# Altium footprint library passiveComps.PcbLib: 19 footprints (part 2 of 2)
Each footprint in its own frame and in the unit in brackets; x right, y up, seen from the top. Pads: shape width x height; smd on the part's side, far side on the other; paste and mask are expansions set on the pad; w line width, h text height; cw(c..) or ccw(c..) is an arc to the next point about the centre after c.
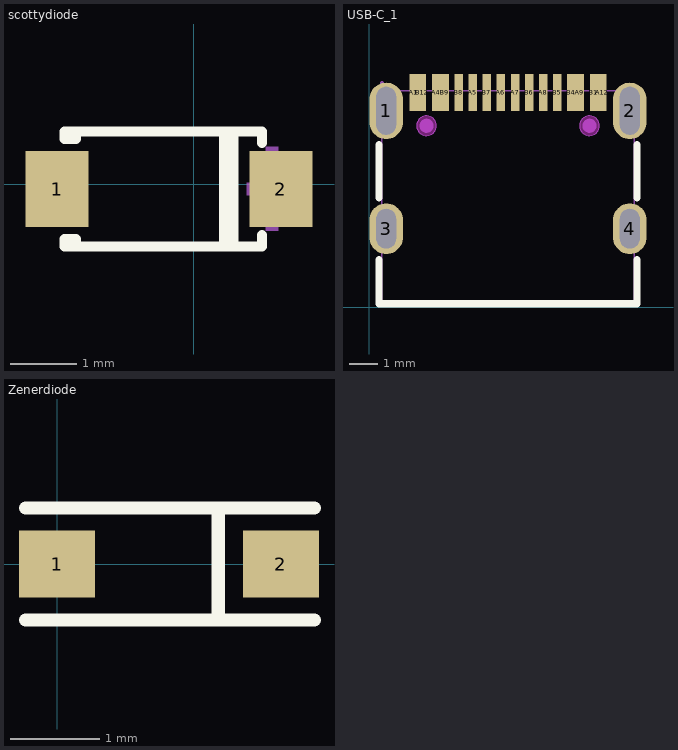
[diagram p1: the footprints below, top view; thin cyan lines are the x and y axes]

## scottydiode [mm]
pads (2):
  rect 0.95x1.15 smd paste+0 mask+0.051: 1(-2.065,-0.074) 2(1.32,-0.074)
Top Overlay:
  lines w0.152: 0.458,-0.94 0.458,0.793 ; 0.6,-0.94 0.6,0.793 ; 1.034,-0.772 1.034,-0.94 -1.779,-0.94 ; 1.034,0.625 1.034,0.793 -1.779,0.793 ; -1.779,-0.94 -1.952,-0.94 -1.952,-0.829 -1.779,-0.829 -1.779,-0.94 ; -1.779,0.793 -1.952,0.793 -1.952,0.682 -1.779,0.682 -1.779,0.793
Mechanical 15:
  region: -2.403,0.021 -2.403,-0.168 -1.644,-0.168 -1.644,0.021
  region: 1.563,0.024 1.563,-0.165 0.804,-0.165 0.804,0.024
  region: 1.279,0.561 1.279,-0.703 1.089,-0.703 1.089,0.561
3D body "sod123 v4.step": height 1.2, standoff 0, extent -2.254,-0.931 1.496,0.769

## USB-C_1 [mm]
pads (20):
  oval 1.2x2 hole 0.7 slot 1.7 at 90 deg paste+0 mask+0.051: 1(0.596,6.972) 2(9.236,6.972)
  oval 1.2x1.8 hole 0.7 slot 1.4 at 90 deg paste+0 mask+0.051: 3(0.596,2.792) 4(9.236,2.792)
  rect 0.3x1.3 smd paste-100 mask+0.05: A1(1.566,7.622) A4(2.366,7.622) A5(3.666,7.622) A6(4.666,7.622) A7(5.166,7.622) A8(6.166,7.622) A9(7.466,7.622) A12(8.266,7.622) B1(7.966,7.622) B4(7.166,7.622) B5(6.666,7.622) B6(5.666,7.622) B7(4.166,7.622) B8(3.166,7.622) B9(2.666,7.622) B12(1.866,7.622)
Top Overlay:
  lines w0.254: 0.344,1.7 0.344,0.127 9.488,0.127 9.488,1.7 ; 0.344,3.884 0.344,5.78 ; 9.488,3.884 9.488,5.78
Top Paste:
  drawing of 16 lines, arcs and shapes, not listed
Keep-Out Layer:
  board cut-out: 8.156,6.442 8.156,6.512 8.103,6.64 8.004,6.739 7.876,6.792 7.736,6.792 7.608,6.739 7.509,6.64 7.456,6.512 7.456,6.442 7.456,6.372 7.509,6.244 7.608,6.145 7.736,6.092 7.876,6.092 8.004,6.145 8.103,6.244 8.156,6.372
  board cut-out: 2.376,6.442 2.376,6.512 2.323,6.64 2.224,6.739 2.096,6.792 1.956,6.792 1.828,6.739 1.729,6.64 1.676,6.512 1.676,6.442 1.676,6.372 1.729,6.244 1.828,6.145 1.956,6.092 2.096,6.092 2.224,6.145 2.323,6.244 2.376,6.372
Mechanical 1:
  circle w0.005: c7.806,6.442 r0.35
  circle w0.005: c2.026,6.442 r0.35
Mechanical 6:
  circle w0.25: c7.806,6.442 r0.125
  circle w0.25: c2.026,6.442 r0.125
Mechanical 15:
  region: 1.716,7.967 1.916,7.967 1.916,6.967 1.716,6.967
  region: 1.516,7.967 1.716,7.967 1.716,6.967 1.516,6.967
  region: 2.516,7.967 2.716,7.967 2.716,6.967 2.516,6.967
  region: 2.316,7.967 2.516,7.967 2.516,6.967 2.316,6.967
  region: 7.316,7.967 7.516,7.967 7.516,6.967 7.316,6.967
  region: 7.116,7.967 7.316,7.967 7.316,6.967 7.116,6.967
  region: 8.116,7.967 8.316,7.967 8.316,6.967 8.116,6.967
  region: 7.916,7.967 8.116,7.967 8.116,6.967 7.916,6.967
  region: 3.066,7.967 3.266,7.967 3.266,6.967 3.066,6.967
  region: 3.566,7.967 3.766,7.967 3.766,6.967 3.566,6.967
  region: 4.066,7.967 4.266,7.967 4.266,6.967 4.066,6.967
  region: 4.566,7.967 4.766,7.967 4.766,6.967 4.566,6.967
  region: 5.066,7.967 5.266,7.967 5.266,6.967 5.066,6.967
  region: 5.566,7.967 5.766,7.967 5.766,6.967 5.566,6.967
  region: 6.566,7.967 6.766,7.967 6.766,6.967 6.566,6.967
  region: 6.066,7.967 6.266,7.967 6.266,6.967 6.066,6.967
  region: 9.086,3.192 9.386,3.192 9.386,2.392 9.086,2.392
  region: 0.446,3.192 0.746,3.192 0.746,2.392 0.446,2.392
  region: 9.086,7.522 9.386,7.522 9.386,6.422 9.086,6.422
  region: 0.446,7.522 0.746,7.522 0.746,6.422 0.446,6.422
  region: 0.506,7.967 0.505,7.991 0.47,8.025 0.422,8.025 0.387,7.991 0.386,7.967 0.387,7.943 0.422,7.909 0.47,7.909 0.505,7.943
  lines w0.051: 0.446,0.127 9.386,0.127 9.386,7.677 0.446,7.677 0.446,0.127
Multi-Layer:
  circle w0.254: c2.026,6.442 r0.35
  circle w0.254: c7.806,6.442 r0.35
3D body "USB_type_C_smd_12p.stp": height 3.2, standoff -1.27, extent 0.312,-0.053 9.512,7.897

## Zenerdiode [mm]
pads (2):
  rect 0.85x0.75 smd: 1(0,0) 2(2.5,0)
Top Overlay:
  lines w0.15: -0.35,-0.625 2.875,-0.625 ; -0.35,0.625 2.875,0.625 ; 1.8,-0.6 1.8,0.625
3D body "SOD-323.STEP": height 1.17, standoff 0.02, extent -0.1,-0.723 2.6,0.723